# Altium footprint library Jumper.PcbLib: 1 footprints
Each footprint in its own frame and in the unit in brackets; x right, y up, seen from the top. Pads: shape width x height; smd on the part's side, far side on the other; paste and mask are expansions set on the pad; w line width, h text height; cw(c..) or ccw(c..) is an arc to the next point about the centre after c.
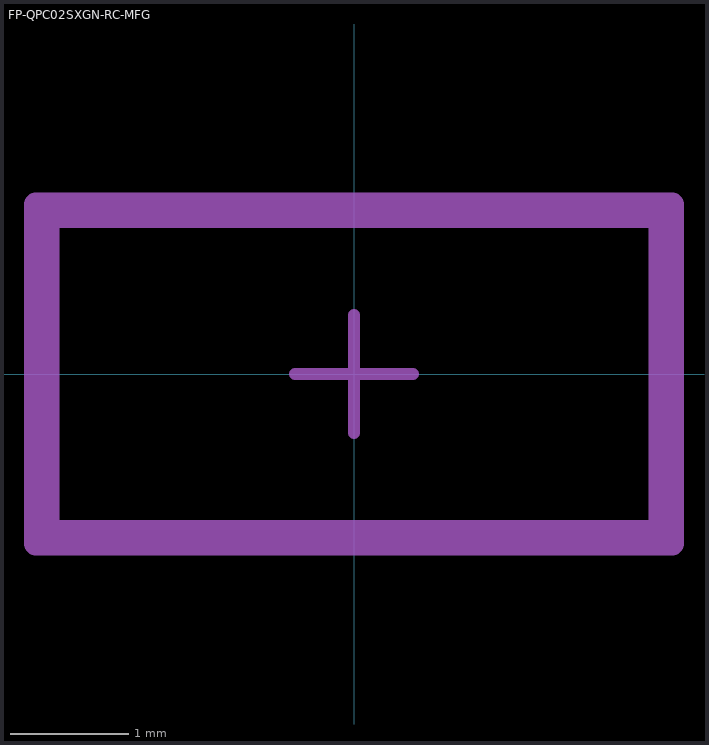
[diagram p0: the footprint, top view; thin cyan lines are the x and y axes]

## FP-QPC02SXGN-RC-MFG [mm]
Top Assembly:
  lines w0.2: -2.691,-1.433 -2.691,1.433 2.691,1.433 2.691,-1.433 -2.691,-1.433
Top 3D Body:
  lines w0.2: -2.591,-1.333 -2.591,1.333 2.591,1.333 2.591,-1.333 -2.591,-1.333
Top Courtyard:
  lines w0.2: -2.691,-1.433 -2.691,1.433 2.691,1.433 2.691,-1.433 -2.691,-1.433
Top Component Center:
  lines w0.1: -0.5,0 0.5,0 ; 0,-0.5 0,0.5
3D body "Conn_Sullins_QPC02SXGN-RC_eec.STEP": height 0.25, standoff 0, extent -2.691,-1.433 2.691,1.433